# EAGLE library part 685119134923 (library WR-HDMI)
WR-COM HDMI SMT Horizontal <https://www.we-online.com/components/media/o33015v209%20Family_WR-COM_685119134923.jpg> Details see: www.we-online.com/en/components/products/COM_SMT_HORIZONTAL <www.we-online.com/catalog/COM_SMT_HORIZONTAL/?utm_source=eagle_model&utm_medium=description_link&utm_campaign=eisos_eagle> Updated by Ella Wu 2023-05-16 2023(C) Würth Elektronik
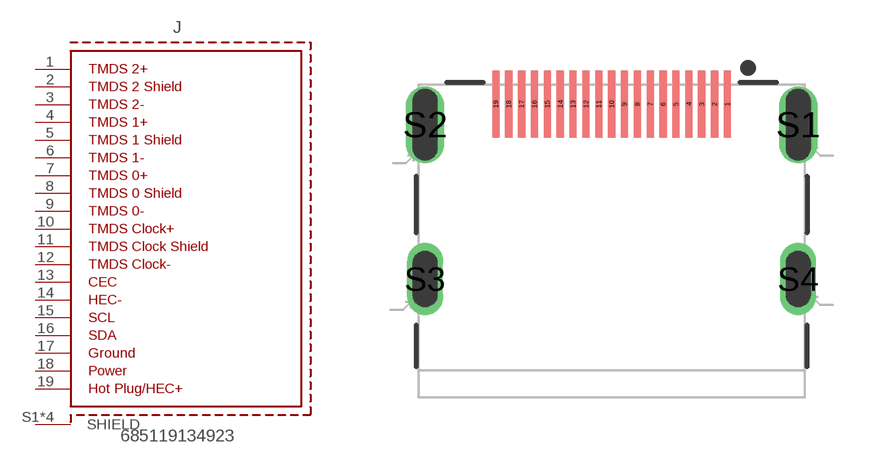
[diagram p0: symbol with the pads of 685119134923; footprint 685119134923]

Designator prefix J

## 685119134923 (DATASHEET-URL: https://www.we-online.com/redexpert/spec/685119134923?ae; GERDER: Receptacle; MOUNT: SMT; PART-NUMBER: 685119134923; PINS: 19; RATED-CURRENT: 0.5A; TYPE: Horizontal; VALUE: 685119134923; WORKING-VOLTAGE: 40VDC)  [685119134923]
1  TMDS2+  pas
2  TMDS2SHIELD  pas
3  TMDS2-  pas
4  TMDS1+  pas
5  TMDS1SHIELD  pas
6  TMDS1-  pas
7  TMDS0+  pas
8  TMDS0SHIELD  pas
9  TMDS0-  pas
10  TMDSCLOCK+  pas
11  TMDSCLOCKSHIELD  pas
12  TMDSCLOCK-  pas
13  CEC  pas
14  HEC-  pas
15  SCL  pas
16  SDA  pas
17  GROUND  pas
18  POWER  pwr
19  HOTPLUG/HEC+  pas
S1  SHIELD  pas
S2  SHIELD  pas
S3  SHIELD  pas
S4  SHIELD  pas

## Footprint 685119134923 (pad centres in mm)
WR-COM HDMI SMT Horizontal 19 pins
smd 0.28 x 2.6: 1 4.5,0; 2 4,0; 3 3.5,0; 4 3,0; 5 2.5,0; 6 2,0; 7 1.5,0; 8 1,0; 9 0.5,0; 10 0,0; 11 -0.5,0; 12 -1,0; 13 -1.5,0; 14 -2,0; 15 -2.5,0; 16 -3,0; 17 -3.5,0; 18 -4,0; 19 -4.5,0
drill 0.9 pad 1.5 long: S1 7.25,-0.8; S2 -7.25,-0.8
drill 0.9 pad 1.3 long: S3 -7.25,-6.8; S4 7.25,-6.8